# Altium footprint library Pad.PcbLib: 42 footprints (part 3 of 3)
Each footprint in its own frame and in the unit in brackets; x right, y up, seen from the top. Pads: shape width x height; smd on the part's side, far side on the other; paste and mask are expansions set on the pad; w line width, h text height; cw(c..) or ccw(c..) is an arc to the next point about the centre after c.
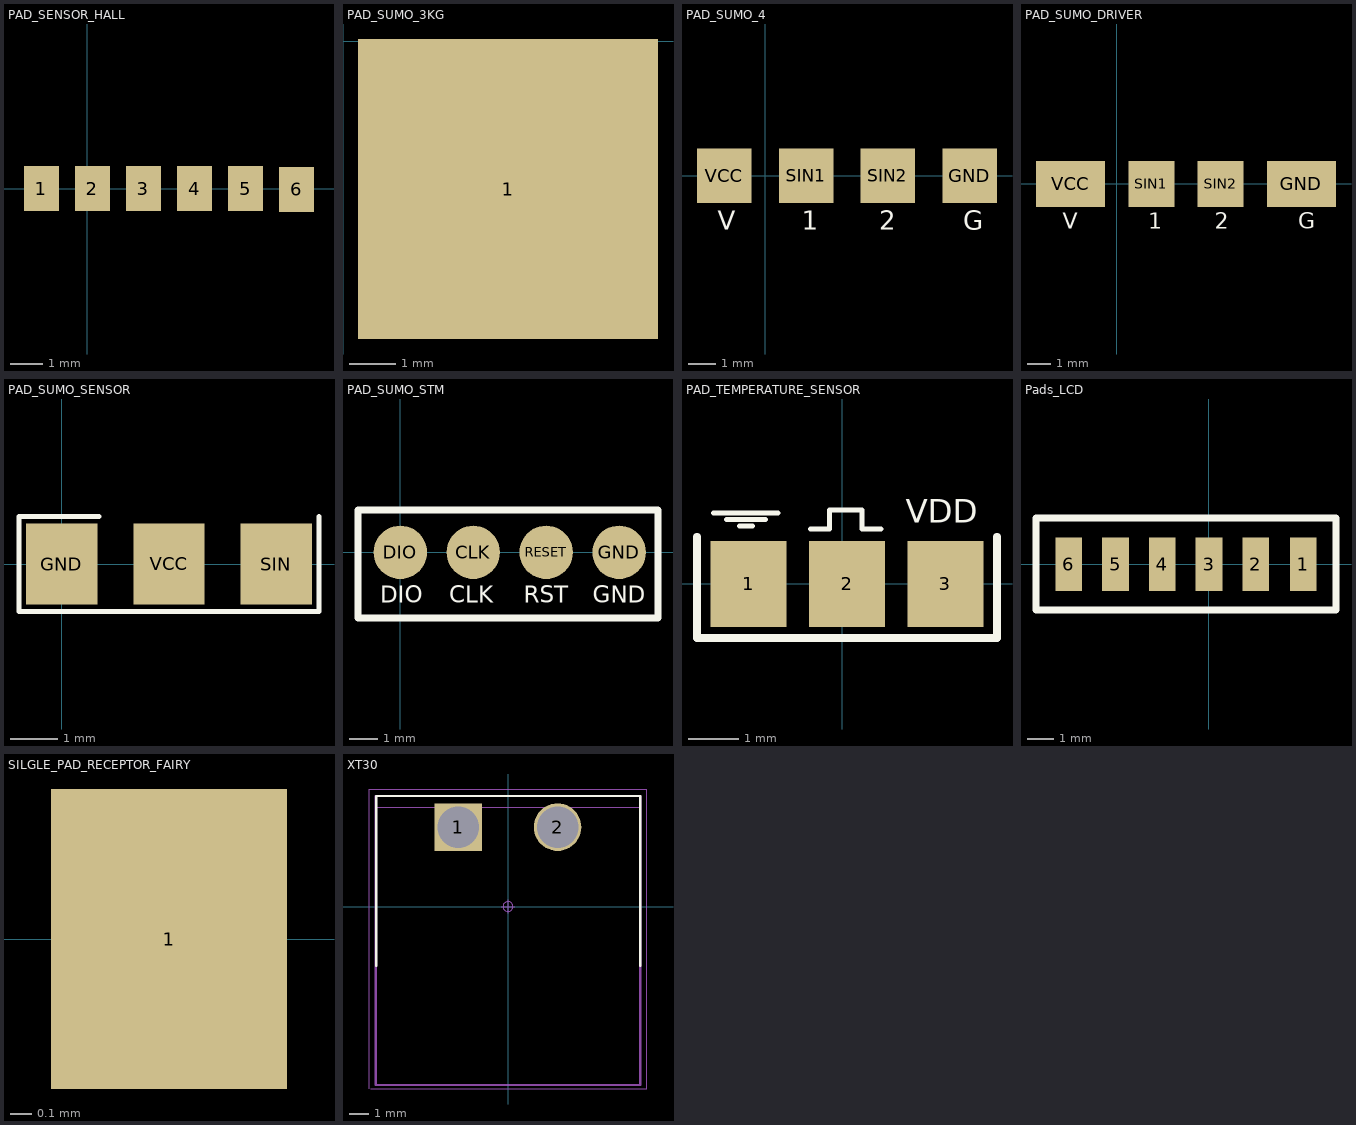
[diagram p2: the footprints below, top view; thin cyan lines are the x and y axes]

## PAD_SENSOR_HALL [mm]
pads (6):
  rect 1.1x1.4 smd: 1(-1.425,0) 2(0.165,0) 3(1.756,0) 4(3.346,0) 5(4.937,0) 6(6.527,-0.025)

## PAD_SUMO_3KG [mm]
pads (1):
  rect 6.5x6.5 smd: 1(3.581,-3.2)

## PAD_SUMO_4 [mm]
pads (4):
  rect 2x2 smd: GND(7.5,0) SIN1(1.5,0) SIN2(4.5,0) VCC(-1.5,0)
Top Overlay:
  text "2" at 4.176,-1.971 h0.7
  text "V" at -1.746,-1.971 h0.7
  text "1" at 1.332,-1.971 h0.7
  text "G" at 7.254,-1.971 h0.7

## PAD_SUMO_DRIVER [mm]
pads (4):
  rect 3x2 smd: GND(8,0) VCC(-2,0)
  rect 2x2 smd: SIN1(1.5,0) SIN2(4.5,0)
Top Overlay:
  text "G" at 7.854,-1.946 h0.7
  text "2" at 4.254,-1.946 h0.7
  text "V" at -2.346,-1.946 h0.7
  text "1" at 1.354,-1.946 h0.7

## PAD_SUMO_SENSOR [mm]
pads (3):
  rect 1.5x1.7 smd: GND(0,0) SIN(4.5,0) VCC(2.25,0)
Top Overlay:
  lines w0.1: 0.787,1 -0.9,1 -0.9,-1 5.4,-1 5.4,1

## PAD_SUMO_STM [mm]
pads (4):
  round 1.86 smd: CLK(2.54,0) DIO(0,0) GND(7.62,0) RESET(5.08,0)
Top Overlay:
  lines w0.254: -1.473,-2.286 -1.473,1.473 8.975,1.473 8.975,-2.286 -1.473,-2.286
  text "DIO" at -0.7,-1.951 h1
  text "RST" at 4.3,-1.951 h1
  text "CLK" at 1.7,-1.951 h1
  text "GND" at 6.7,-1.951 h1

## PAD_TEMPERATURE_SENSOR [mm]
pads (3):
  rect 1.5x1.7 smd: 1(-1.854,0) 2(0.089,0) 3(2.032,0)
Top Overlay:
  lines w0.1: -2.54,1.397 -1.27,1.397 ; -2.286,1.27 -1.524,1.27 ; -2.032,1.143 -1.778,1.143 ; -0.635,1.079 -0.254,1.079 -0.254,1.46 0.381,1.46 0.381,1.079 0.762,1.079
  lines w0.15: -2.87,0.933 -2.87,-1.067 3.048,-1.067 3.048,0.933
  text "VDD" at 1.253,1.052 h0.8

## Pads_LCD [mm]
pads (6):
  rect 1x2 smd: 1(3.525,0) 2(1.755,0) 3(0.01,0) 4(-1.735,0) 5(-3.48,0) 6(-5.225,0)
Top Overlay:
  lines w0.254: -6.45,-1.7 4.75,-1.7 4.75,1.725 -6.45,1.725 -6.45,-1.7

## SILGLE_PAD_RECEPTOR_FAIRY [mm]
pads (1):
  rect 1.1x1.4 smd: 1(-1.425,0)

## XT30 [mm] "Header, Vertical, 2.54 mm pitch; 0.66 mm lead width, 5 pins, 1 row, 5 pins per row, 12.70 mm L X 2.49 mm W X 9.02 mm H body"
height 9.02
pads (2):
  rect 2.4x2.4 hole 2.1 paste-2539.97: 1(-2.5,4)
  round 2.4 hole 2.1 paste-2539.97: 2(2.5,4)
Top Overlay:
  lines w0.12: -6.65,-3 -6.65,5.575 6.675,5.575 6.675,-3
Mechanical 11:
  lines w0.12: -6.675,-9 6.675,-9 6.675,5.575 -6.675,5.575 -6.675,-9
Mechanical 12:
  lines w0.025: -6.675,-9 -6.675,5 6.675,5 6.675,-9 -6.675,-9
Mechanical 15:
  circle w0.05: c0,0 r0.25
  lines w0.05: -7,-9.2 -7,5.925 7,5.925 7,-9.2 -6.925,-9.2 ; -0.35,0 0.35,0 ; 0,-0.35 0,0.35
Mechanical 16:
  text ".Designator" at 0,0 h1.2
3D body "Amass_XT30PW-M_pcb solder.stp": height 5.1, standoff -3.35, extent -6.65,-8.873 6.65,5.077